# Altium integrated library Diodes - TVS.IntLib: 5379 symbols (part 1 of 122)
Pins are listed as number, name and electrical type; pins without a type are passive.

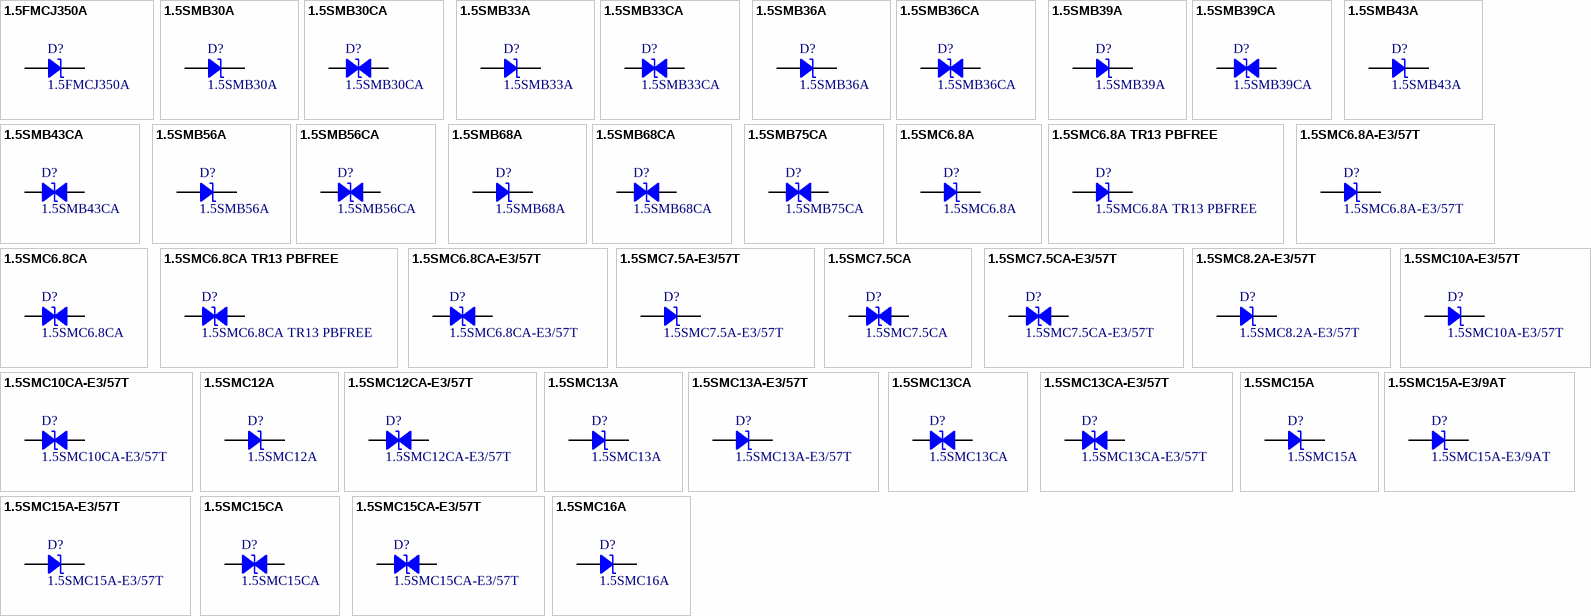
[diagram p0: symbols 1.5FMCJ350A to 1.5SMC16A]

## 1.5FMCJ350A
designator D?
TVS DIODE 1500W GPP 350V SMC; Manufacturer: Rectron USA; Current - Peak Pulse (10/1000µs): 3.2A; Power Line Protection: No; Power - Peak Pulse: 1500W (1.5kW); Type: Zener; Unidirectional Channels: 1; Voltage - Breakdown (Min): 333V; Voltage - Clamping (Max) @ Ipp: 482V; Voltage - Reverse Standoff (Typ): 300V; Part Number: 1.5FMCJ350A; Applications: General Purpose; ComponentLink1Description: Datasheet; ComponentLink1URL: https://www.rectron.com/public/product_datasheets/1.5fmcj.pdf; ComponentLink2Description: DigiKey Link; ComponentLink2URL: http://digikey.com/product-detail/en/rectron-usa/1-5FMCJ350A/2516-1-5FMCJ350ATR-ND/12337481; LastUpdated: 8/30/2020 9:01:03 PM; Lifecycle Status: Active; Minimum Order: 3000; Mounting Type: Surface Mount; Package / Case: DO-214AB, SMC; Packaging: TapeAndReel; PartId: 11449; Price: 0.27; Series: 1.5FMCJ; Supplier 1: DigiKey; Supplier Part Number 1: 2516-1.5FMCJ350ATR-ND; Supplier Device Package: DO-214AB (SMC)
footprint DO214AB SMC
pins: 1, 2

## 1.5SMB30A
designator D?
TVS DIODE 1500W 30V UNI DO214AA; Manufacturer: Littelfuse Inc.; Current - Peak Pulse (10/1000µs): 201.9A (8/20µs); Power Line Protection: No; Power - Peak Pulse: 1500W (1.5kW); Type: DO-214AA, SMB; Unidirectional Channels: 1; Voltage - Breakdown (Min): 28.5V; Voltage - Clamping (Max) @ Ipp: 53.5V; Voltage - Reverse Standoff (Typ): 25.6V; Part Number: 1.5SMB30A; Applications: Telecom; ComponentLink1Description: Datasheet; ComponentLink1URL: https://www.littelfuse.com/~/media/electronics/datasheets/tvs_diodes/littelfuse_tvs_diode_1_5smb-_datasheet.pdf.pdf; ComponentLink2Description: DigiKey Link; ComponentLink2URL: http://digikey.com/product-detail/en/littelfuse-inc/1.5SMB30A/18-1.5SMB30ACT-ND/10478052; LastUpdated: 9/2/2020 1:19:42 AM; Lifecycle Status: Active; Minimum Order: 1; Mounting Type: Surface Mount; Operating Temperature: -65°C ~ 150°C (TJ); Package / Case: DO-214AA, SMB; Packaging: TapeAndReel; PartId: 10508; Part Status: Active; Price: 0.25; Series: 1.5SMB; Supplier 1: DigiKey; Supplier Part Number 1: 18-1.5SMB30ACT-ND; Supplier Device Package: DO-214AA (SMBJ)
footprint DO214AA SMB
pins: 1, 2

## 1.5SMB30CA
designator D?
TVS DIODE 1500W 30V BI DO-214AA; Manufacturer: Littelfuse Inc.; Bidirectional Channels: 1; Current - Peak Pulse (10/1000µs): 201.9A (8/20µs); Power Line Protection: No; Power - Peak Pulse: 1500W (1.5kW); Type: DO-214AA, SMB; Voltage - Breakdown (Min): 28.5V; Voltage - Clamping (Max) @ Ipp: 53.5V; Voltage - Reverse Standoff (Typ): 25.6V; Part Number: 1.5SMB30CA; Applications: Telecom; ComponentLink1Description: Datasheet; ComponentLink1URL: https://www.littelfuse.com/~/media/electronics/datasheets/tvs_diodes/littelfuse_tvs_diode_1_5smb-_datasheet.pdf.pdf; ComponentLink2Description: DigiKey Link; ComponentLink2URL: http://digikey.com/product-detail/en/littelfuse-inc/1.5SMB30CA/18-1.5SMB30CACT-ND/10477976; LastUpdated: 9/2/2020 1:28:15 AM; Lifecycle Status: Active; Minimum Order: 1; Mounting Type: Surface Mount; Operating Temperature: -65°C ~ 150°C (TJ); Package / Case: DO-214AA, SMB; Packaging: TapeAndReel; PartId: 8813; Part Status: Active; Price: 0.27; Series: 1.5SMB; Supplier 1: DigiKey; Supplier Part Number 1: 18-1.5SMB30CACT-ND; Supplier Device Package: DO-214AA (SMBJ)
footprint DO214AA SMB
pins: 1, 2

## 1.5SMB33A
designator D?
TVS DIODE 1500W 33V UNI DO214AA; Manufacturer: Littelfuse Inc.; Current - Peak Pulse (10/1000µs): 183.2A (8/20µs); Power Line Protection: No; Power - Peak Pulse: 1500W (1.5kW); Type: DO-214AA, SMB; Unidirectional Channels: 1; Voltage - Breakdown (Min): 31.4V; Voltage - Clamping (Max) @ Ipp: 59V; Voltage - Reverse Standoff (Typ): 28.2V; Part Number: 1.5SMB33A; Applications: Telecom; ComponentLink1Description: Datasheet; ComponentLink1URL: https://www.littelfuse.com/~/media/electronics/datasheets/tvs_diodes/littelfuse_tvs_diode_1_5smb-_datasheet.pdf.pdf; ComponentLink2Description: DigiKey Link; ComponentLink2URL: http://digikey.com/product-detail/en/littelfuse-inc/1.5SMB33A/18-1.5SMB33ACT-ND/10478013; LastUpdated: 9/2/2020 1:19:42 AM; Lifecycle Status: Active; Minimum Order: 1; Mounting Type: Surface Mount; Operating Temperature: -65°C ~ 150°C (TJ); Package / Case: DO-214AA, SMB; Packaging: TapeAndReel; PartId: 10511; Part Status: Active; Price: 0.25; Series: 1.5SMB; Supplier 1: DigiKey; Supplier Part Number 1: 18-1.5SMB33ACT-ND; Supplier Device Package: DO-214AA (SMBJ)
footprint DO214AA SMB
pins: 1, 2

## 1.5SMB33CA
designator D?
TVS DIODE 1500W 33V BI DO-214AA; Manufacturer: Littelfuse Inc.; Bidirectional Channels: 1; Current - Peak Pulse (10/1000µs): 183.2A (8/20µs); Power Line Protection: No; Power - Peak Pulse: 1500W (1.5kW); Type: DO-214AA, SMB; Voltage - Breakdown (Min): 31.4V; Voltage - Clamping (Max) @ Ipp: 59V; Voltage - Reverse Standoff (Typ): 28.2V; Part Number: 1.5SMB33CA; Applications: Telecom; ComponentLink1Description: Datasheet; ComponentLink1URL: https://www.littelfuse.com/~/media/electronics/datasheets/tvs_diodes/littelfuse_tvs_diode_1_5smb-_datasheet.pdf.pdf; ComponentLink2Description: DigiKey Link; ComponentLink2URL: http://digikey.com/product-detail/en/littelfuse-inc/1.5SMB33CA/18-1.5SMB33CACT-ND/10477989; LastUpdated: 9/2/2020 1:28:15 AM; Lifecycle Status: Active; Minimum Order: 1; Mounting Type: Surface Mount; Operating Temperature: -65°C ~ 150°C (TJ); Package / Case: DO-214AA, SMB; Packaging: TapeAndReel; PartId: 8818; Part Status: Active; Price: 0.27; Series: 1.5SMB; Supplier 1: DigiKey; Supplier Part Number 1: 18-1.5SMB33CACT-ND; Supplier Device Package: DO-214AA (SMBJ)
footprint DO214AA SMB
pins: 1, 2

## 1.5SMB36A
designator D?
TVS DIODE 1500W 36V UNI DO214AA; Manufacturer: Littelfuse Inc.; Current - Peak Pulse (10/1000µs): 167.8A (8/20µs); Power Line Protection: No; Power - Peak Pulse: 1500W (1.5kW); Type: DO-214AA, SMB; Unidirectional Channels: 1; Voltage - Breakdown (Min): 34.2V; Voltage - Clamping (Max) @ Ipp: 64.5V; Voltage - Reverse Standoff (Typ): 30.8V; Part Number: 1.5SMB36A; Applications: Telecom; ComponentLink1Description: Datasheet; ComponentLink1URL: https://www.littelfuse.com/~/media/electronics/datasheets/tvs_diodes/littelfuse_tvs_diode_1_5smb-_datasheet.pdf.pdf; ComponentLink2Description: DigiKey Link; ComponentLink2URL: http://digikey.com/product-detail/en/littelfuse-inc/1.5SMB36A/18-1.5SMB36ACT-ND/10477997; LastUpdated: 9/2/2020 1:19:42 AM; Lifecycle Status: Active; Minimum Order: 1; Mounting Type: Surface Mount; Operating Temperature: -65°C ~ 150°C (TJ); Package / Case: DO-214AA, SMB; Packaging: TapeAndReel; PartId: 10512; Part Status: Active; Price: 0.25; Series: 1.5SMB; Supplier 1: DigiKey; Supplier Part Number 1: 18-1.5SMB36ACT-ND; Supplier Device Package: DO-214AA (SMBJ)
footprint DO214AA SMB
pins: 1, 2

## 1.5SMB36CA
designator D?
TVS DIODE 1500W 36V BI DO-214AA; Manufacturer: Littelfuse Inc.; Bidirectional Channels: 1; Current - Peak Pulse (10/1000µs): 167.8A (8/20µs); Power Line Protection: No; Power - Peak Pulse: 1500W (1.5kW); Type: DO-214AA, SMB; Voltage - Breakdown (Min): 34.2V; Voltage - Clamping (Max) @ Ipp: 64.5V; Voltage - Reverse Standoff (Typ): 30.8V; Part Number: 1.5SMB36CA; Applications: Telecom; ComponentLink1Description: Datasheet; ComponentLink1URL: https://www.littelfuse.com/~/media/electronics/datasheets/tvs_diodes/littelfuse_tvs_diode_1_5smb-_datasheet.pdf.pdf; ComponentLink2Description: DigiKey Link; ComponentLink2URL: http://digikey.com/product-detail/en/littelfuse-inc/1.5SMB36CA/18-1.5SMB36CACT-ND/10477971; LastUpdated: 9/2/2020 1:28:15 AM; Lifecycle Status: Active; Minimum Order: 1; Mounting Type: Surface Mount; Operating Temperature: -65°C ~ 150°C (TJ); Package / Case: DO-214AA, SMB; Packaging: TapeAndReel; PartId: 8814; Part Status: Active; Price: 0.27; Series: 1.5SMB; Supplier 1: DigiKey; Supplier Part Number 1: 18-1.5SMB36CACT-ND; Supplier Device Package: DO-214AA (SMBJ)
footprint DO214AA SMB
pins: 1, 2

## 1.5SMB39A
designator D?
TVS DIODE 1500W 39V UNI DO214AA; Manufacturer: Littelfuse Inc.; Current - Peak Pulse (10/1000µs): 155.1A (8/20µs); Power Line Protection: No; Power - Peak Pulse: 1500W (1.5kW); Type: DO-214AA, SMB; Unidirectional Channels: 1; Voltage - Breakdown (Min): 37.1V; Voltage - Clamping (Max) @ Ipp: 69.6V; Voltage - Reverse Standoff (Typ): 33.3V; Part Number: 1.5SMB39A; Applications: Telecom; ComponentLink1Description: Datasheet; ComponentLink1URL: https://www.littelfuse.com/~/media/electronics/datasheets/tvs_diodes/littelfuse_tvs_diode_1_5smb-_datasheet.pdf.pdf; ComponentLink2Description: DigiKey Link; ComponentLink2URL: http://digikey.com/product-detail/en/littelfuse-inc/1.5SMB39A/18-1.5SMB39ACT-ND/10478014; LastUpdated: 9/2/2020 1:19:42 AM; Lifecycle Status: Active; Minimum Order: 1; Mounting Type: Surface Mount; Operating Temperature: -65°C ~ 150°C (TJ); Package / Case: DO-214AA, SMB; Packaging: TapeAndReel; PartId: 10510; Part Status: Active; Price: 0.25; Series: 1.5SMB; Supplier 1: DigiKey; Supplier Part Number 1: 18-1.5SMB39ACT-ND; Supplier Device Package: DO-214AA (SMBJ)
footprint DO214AA SMB
pins: 1, 2

## 1.5SMB39CA
designator D?
TVS DIODE 1500W 39V BI DO-214AA; Manufacturer: Littelfuse Inc.; Bidirectional Channels: 1; Current - Peak Pulse (10/1000µs): 155.1A (8/20µs); Power Line Protection: No; Power - Peak Pulse: 1500W (1.5kW); Type: DO-214AA, SMB; Voltage - Breakdown (Min): 37.1V; Voltage - Clamping (Max) @ Ipp: 69.6V; Voltage - Reverse Standoff (Typ): 33.3V; Part Number: 1.5SMB39CA; Applications: Telecom; ComponentLink1Description: Datasheet; ComponentLink1URL: https://www.littelfuse.com/~/media/electronics/datasheets/tvs_diodes/littelfuse_tvs_diode_1_5smb-_datasheet.pdf.pdf; ComponentLink2Description: DigiKey Link; ComponentLink2URL: http://digikey.com/product-detail/en/littelfuse-inc/1.5SMB39CA/18-1.5SMB39CACT-ND/10477963; LastUpdated: 9/2/2020 1:28:15 AM; Lifecycle Status: Active; Minimum Order: 1; Mounting Type: Surface Mount; Operating Temperature: -65°C ~ 150°C (TJ); Package / Case: DO-214AA, SMB; Packaging: TapeAndReel; PartId: 8815; Part Status: Active; Price: 0.27; Series: 1.5SMB; Supplier 1: DigiKey; Supplier Part Number 1: 18-1.5SMB39CACT-ND; Supplier Device Package: DO-214AA (SMBJ)
footprint DO214AA SMB
pins: 1, 2

## 1.5SMB43A
designator D?
TVS DIODE 1500W 43V UNI DO214AA; Manufacturer: Littelfuse Inc.; Current - Peak Pulse (10/1000µs): 140.8A (8/20µs); Power Line Protection: No; Power - Peak Pulse: 1500W (1.5kW); Type: DO-214AA, SMB; Unidirectional Channels: 1; Voltage - Breakdown (Min): 40.9V; Voltage - Clamping (Max) @ Ipp: 76.6V; Voltage - Reverse Standoff (Typ): 36.8V; Part Number: 1.5SMB43A; Applications: Telecom; ComponentLink1Description: Datasheet; ComponentLink1URL: https://www.littelfuse.com/~/media/electronics/datasheets/tvs_diodes/littelfuse_tvs_diode_1_5smb-_datasheet.pdf.pdf; ComponentLink2Description: DigiKey Link; ComponentLink2URL: http://digikey.com/product-detail/en/littelfuse-inc/1.5SMB43A/18-1.5SMB43ACT-ND/10477973; LastUpdated: 9/2/2020 1:19:42 AM; Lifecycle Status: Active; Minimum Order: 1; Mounting Type: Surface Mount; Operating Temperature: -65°C ~ 150°C (TJ); Package / Case: DO-214AA, SMB; Packaging: TapeAndReel; PartId: 10514; Part Status: Active; Price: 0.25; Series: 1.5SMB; Supplier 1: DigiKey; Supplier Part Number 1: 18-1.5SMB43ACT-ND; Supplier Device Package: DO-214AA (SMBJ)
footprint DO214AA SMB
pins: 1, 2

## 1.5SMB43CA
designator D?
TVS DIODE 1500W 43V BI DO-214AA; Manufacturer: Littelfuse Inc.; Bidirectional Channels: 1; Current - Peak Pulse (10/1000µs): 140.8A (8/20µs); Power Line Protection: No; Power - Peak Pulse: 1500W (1.5kW); Type: DO-214AA, SMB; Voltage - Breakdown (Min): 40.9V; Voltage - Clamping (Max) @ Ipp: 76.6V; Voltage - Reverse Standoff (Typ): 36.8V; Part Number: 1.5SMB43CA; Applications: Telecom; ComponentLink1Description: Datasheet; ComponentLink1URL: https://www.littelfuse.com/~/media/electronics/datasheets/tvs_diodes/littelfuse_tvs_diode_1_5smb-_datasheet.pdf.pdf; ComponentLink2Description: DigiKey Link; ComponentLink2URL: http://digikey.com/product-detail/en/littelfuse-inc/1.5SMB43CA/18-1.5SMB43CACT-ND/10478018; LastUpdated: 9/2/2020 1:28:15 AM; Lifecycle Status: Active; Minimum Order: 1; Mounting Type: Surface Mount; Operating Temperature: -65°C ~ 150°C (TJ); Package / Case: DO-214AA, SMB; Packaging: TapeAndReel; PartId: 8809; Part Status: Active; Price: 0.27; Series: 1.5SMB; Supplier 1: DigiKey; Supplier Part Number 1: 18-1.5SMB43CACT-ND; Supplier Device Package: DO-214AA (SMBJ)
footprint DO214AA SMB
pins: 1, 2

## 1.5SMB56A
designator D?
TVS DIODE 1500W 56V UNI DO214AA; Manufacturer: Littelfuse Inc.; Current - Peak Pulse (10/1000µs): 108.4A (8/20µs); Power Line Protection: No; Power - Peak Pulse: 1500W (1.5kW); Type: DO-214AA, SMB; Unidirectional Channels: 1; Voltage - Breakdown (Min): 53.2V; Voltage - Clamping (Max) @ Ipp: 99.5V; Voltage - Reverse Standoff (Typ): 47.8V; Part Number: 1.5SMB56A; Applications: Telecom; ComponentLink1Description: Datasheet; ComponentLink1URL: https://www.littelfuse.com/~/media/electronics/datasheets/tvs_diodes/littelfuse_tvs_diode_1_5smb-_datasheet.pdf.pdf; ComponentLink2Description: DigiKey Link; ComponentLink2URL: http://digikey.com/product-detail/en/littelfuse-inc/1.5SMB56A/18-1.5SMB56ACT-ND/10478042; LastUpdated: 9/2/2020 1:19:42 AM; Lifecycle Status: Active; Minimum Order: 1; Mounting Type: Surface Mount; Operating Temperature: -65°C ~ 150°C (TJ); Package / Case: DO-214AA, SMB; Packaging: TapeAndReel; PartId: 10509; Part Status: Active; Price: 0.25; Series: 1.5SMB; Supplier 1: DigiKey; Supplier Part Number 1: 18-1.5SMB56ACT-ND; Supplier Device Package: DO-214AA (SMBJ)
footprint DO214AA SMB
pins: 1, 2

## 1.5SMB56CA
designator D?
TVS DIODE 1500W 56V BI DO-214AA; Manufacturer: Littelfuse Inc.; Bidirectional Channels: 1; Current - Peak Pulse (10/1000µs): 108.4A (8/20µs); Power Line Protection: No; Power - Peak Pulse: 1500W (1.5kW); Type: DO-214AA, SMB; Voltage - Breakdown (Min): 53.2V; Voltage - Clamping (Max) @ Ipp: 99.5V; Voltage - Reverse Standoff (Typ): 47.8V; Part Number: 1.5SMB56CA; Applications: Telecom; ComponentLink1Description: Datasheet; ComponentLink1URL: https://www.littelfuse.com/~/media/electronics/datasheets/tvs_diodes/littelfuse_tvs_diode_1_5smb-_datasheet.pdf.pdf; ComponentLink2Description: DigiKey Link; ComponentLink2URL: http://digikey.com/product-detail/en/littelfuse-inc/1.5SMB56CA/18-1.5SMB56CACT-ND/10477981; LastUpdated: 9/2/2020 1:28:15 AM; Lifecycle Status: Active; Minimum Order: 1; Mounting Type: Surface Mount; Operating Temperature: -65°C ~ 150°C (TJ); Package / Case: DO-214AA, SMB; Packaging: TapeAndReel; PartId: 8812; Part Status: Active; Price: 0.27; Series: 1.5SMB; Supplier 1: DigiKey; Supplier Part Number 1: 18-1.5SMB56CACT-ND; Supplier Device Package: DO-214AA (SMBJ)
footprint DO214AA SMB
pins: 1, 2

## 1.5SMB68A
designator D?
TVS DIODE 1500W 68V UNI DO214AA; Manufacturer: Littelfuse Inc.; Current - Peak Pulse (10/1000µs): 90.8A (8/20µs); Power Line Protection: No; Power - Peak Pulse: 1500W (1.5kW); Type: DO-214AA, SMB; Unidirectional Channels: 1; Voltage - Breakdown (Min): 64.6V; Voltage - Clamping (Max) @ Ipp: 118.9V; Voltage - Reverse Standoff (Typ): 58.1V; Part Number: 1.5SMB68A; Applications: Telecom; ComponentLink1Description: Datasheet; ComponentLink1URL: https://www.littelfuse.com/~/media/electronics/datasheets/tvs_diodes/littelfuse_tvs_diode_1_5smb-_datasheet.pdf.pdf; ComponentLink2Description: DigiKey Link; ComponentLink2URL: http://digikey.com/product-detail/en/littelfuse-inc/1.5SMB68A/18-1.5SMB68ACT-ND/10477977; LastUpdated: 9/2/2020 1:19:42 AM; Lifecycle Status: Active; Minimum Order: 1; Mounting Type: Surface Mount; Operating Temperature: -65°C ~ 150°C (TJ); Package / Case: DO-214AA, SMB; Packaging: TapeAndReel; PartId: 10513; Part Status: Active; Price: 0.25; Series: 1.5SMB; Supplier 1: DigiKey; Supplier Part Number 1: 18-1.5SMB68ACT-ND; Supplier Device Package: DO-214AA (SMBJ)
footprint DO214AA SMB
pins: 1, 2

## 1.5SMB68CA
designator D?
TVS DIODE 1500W 68V BI DO-214AA; Manufacturer: Littelfuse Inc.; Bidirectional Channels: 1; Current - Peak Pulse (10/1000µs): 90.8A (8/20µs); Power Line Protection: No; Power - Peak Pulse: 1500W (1.5kW); Type: DO-214AA, SMB; Voltage - Breakdown (Min): 64.6V; Voltage - Clamping (Max) @ Ipp: 118.9V; Voltage - Reverse Standoff (Typ): 58.1V; Part Number: 1.5SMB68CA; Applications: Telecom; ComponentLink1Description: Datasheet; ComponentLink1URL: https://www.littelfuse.com/~/media/electronics/datasheets/tvs_diodes/littelfuse_tvs_diode_1_5smb-_datasheet.pdf.pdf; ComponentLink2Description: DigiKey Link; ComponentLink2URL: http://digikey.com/product-detail/en/littelfuse-inc/1.5SMB68CA/18-1.5SMB68CACT-ND/10478008; LastUpdated: 9/2/2020 1:28:15 AM; Lifecycle Status: Active; Minimum Order: 1; Mounting Type: Surface Mount; Operating Temperature: -65°C ~ 150°C (TJ); Package / Case: DO-214AA, SMB; Packaging: TapeAndReel; PartId: 8810; Part Status: Active; Price: 0.27; Series: 1.5SMB; Supplier 1: DigiKey; Supplier Part Number 1: 18-1.5SMB68CACT-ND; Supplier Device Package: DO-214AA (SMBJ)
footprint DO214AA SMB
pins: 1, 2

## 1.5SMB75CA
designator D?
TVS DIODE 1500W 75V BI DO-214AA; Manufacturer: Littelfuse Inc.; Bidirectional Channels: 1; Current - Peak Pulse (10/1000µs): 81.4A (8/20µs); Power Line Protection: No; Power - Peak Pulse: 1500W (1.5kW); Type: DO-214AA, SMB; Voltage - Breakdown (Min): 71.3V; Voltage - Clamping (Max) @ Ipp: 133.1V; Voltage - Reverse Standoff (Typ): 64.1V; Part Number: 1.5SMB75CA; Applications: Telecom; ComponentLink1Description: Datasheet; ComponentLink1URL: https://www.littelfuse.com/~/media/electronics/datasheets/tvs_diodes/littelfuse_tvs_diode_1_5smb-_datasheet.pdf.pdf; ComponentLink2Description: DigiKey Link; ComponentLink2URL: http://digikey.com/product-detail/en/littelfuse-inc/1.5SMB75CA/18-1.5SMB75CACT-ND/10477991; LastUpdated: 9/2/2020 1:28:15 AM; Lifecycle Status: Active; Minimum Order: 1; Mounting Type: Surface Mount; Operating Temperature: -65°C ~ 150°C (TJ); Package / Case: DO-214AA, SMB; Packaging: TapeAndReel; PartId: 8811; Part Status: Active; Price: 0.27; Series: 1.5SMB; Supplier 1: DigiKey; Supplier Part Number 1: 18-1.5SMB75CACT-ND; Supplier Device Package: DO-214AA (SMBJ)
footprint DO214AA SMB
pins: 1, 2

## 1.5SMC6.8A
designator D?
TVS DIODE 5.8V 10.5V DO214AB; Manufacturer: Littelfuse Inc.; Current - Peak Pulse (10/1000µs): 144.8A; Power Line Protection: No; Power - Peak Pulse: 1500W (1.5kW); Type: Zener; Unidirectional Channels: 1; Voltage - Breakdown (Min): 6.45V; Part Number: 1.5SMC6.8A; Applications: General Purpose; ComponentLink1Description: Datasheet; ComponentLink1URL: https://www.littelfuse.com/~/media/electronics/datasheets/tvs_diodes/littelfuse_tvs_diode_1_5smc_datasheet.pdf.pdf; ComponentLink2Description: DigiKey Link; ComponentLink2URL: http://digikey.com/product-detail/en/littelfuse-inc/1.5SMC6.8A/1.5SMC6.8ACT-ND/1835381; LastUpdated: 9/2/2020 1:20:01 AM; Lifecycle Status: Active; Minimum Order: 1; Mounting Type: Surface Mount; Operating Temperature: -55°C ~ 150°C (TJ); Package / Case: DO-214AB, SMC; Packaging: TapeAndReel; PartId: 6533; Part Status: Active; Price: 0.23; Series: 1.5SMC; Supplier 1: DigiKey; Supplier Part Number 1: 1.5SMC6.8ACT-ND; Supplier Device Package: DO-214AB (SMCJ); Voltage - Clamping (Max) @ Ipp: 10.5V; Voltage - Reverse Standoff (Typ): 5.8V
footprint DO214AB SMC
pins: 1, 2

## 1.5SMC6.8A TR13 PBFREE
designator D?
TVS DIODE 5.8V 10.5V SMC; Manufacturer: Central Semiconductor Corp; Current - Peak Pulse (10/1000µs): 143A; Power Line Protection: No; Power - Peak Pulse: 1500W (1.5kW); Type: Zener; Unidirectional Channels: 1; Voltage - Breakdown (Min): 6.45V; Part Number: 1.5SMC6.8A TR13 PBFREE; Applications: General Purpose; ComponentLink1Description: Datasheet; ComponentLink1URL: https://my.centralsemi.com/get_document.php?cmp=1&mergetype=pd&mergepath=pd&pdf_id=1.5SMC6.8A_200A.PDF; ComponentLink2Description: DigiKey Link; ComponentLink2URL: http://digikey.com/product-detail/en/central-semiconductor-corp/1.5SMC6.8A-TR13-PBFREE/1514-1.5SMC6.8ATR13PBFREECT-ND/5210799; LastUpdated: 9/2/2020 1:20:06 AM; Lifecycle Status: Active; Minimum Order: 1; Mounting Type: Surface Mount; Operating Temperature: -65°C ~ 150°C (TJ); Package / Case: DO-214AB, SMC; Packaging: TapeAndReel; PartId: 6987; Part Status: Active; Price: 0.48; Series: -; Supplier 1: DigiKey; Supplier Part Number 1: 1514-1.5SMC6.8ATR13PBFREECT-ND; Supplier Device Package: SMC; Voltage - Clamping (Max) @ Ipp: 10.5V; Voltage - Reverse Standoff (Typ): 5.8V
footprint DO214AB SMC
pins: 1, 2

## 1.5SMC6.8A-E3/57T
designator D?
TVS DIODE 5.8V 10.5V DO214AB; Manufacturer: Vishay Semiconductor Diodes Division; Current - Peak Pulse (10/1000µs): 143A; Power Line Protection: No; Power - Peak Pulse: 1500W (1.5kW); Type: Zener; Unidirectional Channels: 1; Voltage - Breakdown (Min): 6.45V; Part Number: 1.5SMC6.8A-E3/57T; Applications: General Purpose; ComponentLink1Description: Datasheet; ComponentLink1URL: http://www.vishay.com/docs/88303/15smc.pdf; ComponentLink2Description: DigiKey Link; ComponentLink2URL: http://digikey.com/product-detail/en/vishay-semiconductor-diodes-division/1.5SMC6.8A-E3-57T/1.5SMC6.8A-E3-57TGICT-ND/3306469; LastUpdated: 9/2/2020 1:19:59 AM; Lifecycle Status: Active; Minimum Order: 1; Mounting Type: Surface Mount; Operating Temperature: -65°C ~ 150°C (TJ); Package / Case: DO-214AB, SMC; Packaging: TapeAndReel; PartId: 6267; Part Status: Active; Price: 0.28; Series: 1.5SMC, TransZorb®; Supplier 1: DigiKey; Supplier Part Number 1: 1.5SMC6.8A-E3/57TGICT-ND; Supplier Device Package: SMC (DO-214AB); Voltage - Clamping (Max) @ Ipp: 10.5V; Voltage - Reverse Standoff (Typ): 5.8V
footprint DO214AB SMC
pins: 1, 2

## 1.5SMC6.8CA
designator D?
TVS DIODE 5.8V 10.5V DO214AB; Manufacturer: Littelfuse Inc.; Bidirectional Channels: 1; Current - Peak Pulse (10/1000µs): 144.8A; Power Line Protection: No; Power - Peak Pulse: 1500W (1.5kW); Type: Zener; Voltage - Breakdown (Min): 6.45V; Part Number: 1.5SMC6.8CA; Applications: General Purpose; ComponentLink1Description: Datasheet; ComponentLink1URL: https://www.littelfuse.com/~/media/electronics/datasheets/tvs_diodes/littelfuse_tvs_diode_1_5smc_datasheet.pdf.pdf; ComponentLink2Description: DigiKey Link; ComponentLink2URL: http://digikey.com/product-detail/en/littelfuse-inc/1.5SMC6.8CA/1.5SMC6.8CACT-ND/1835382; LastUpdated: 9/2/2020 1:28:02 AM; Lifecycle Status: Active; Minimum Order: 1; Mounting Type: Surface Mount; Operating Temperature: -55°C ~ 150°C (TJ); Package / Case: DO-214AB, SMC; Packaging: TapeAndReel; PartId: 8031; Part Status: Active; Price: 0.27; Series: 1.5SMC; Supplier 1: DigiKey; Supplier Part Number 1: 1.5SMC6.8CACT-ND; Supplier Device Package: DO-214AB (SMCJ); Voltage - Clamping (Max) @ Ipp: 10.5V; Voltage - Reverse Standoff (Typ): 5.8V
footprint DO214AB SMC
pins: 1, 2

## 1.5SMC6.8CA TR13 PBFREE
designator D?
TVS DIODE 5.8V 10.5V SMC; Manufacturer: Central Semiconductor Corp; Bidirectional Channels: 1; Current - Peak Pulse (10/1000µs): 143A; Power Line Protection: No; Power - Peak Pulse: 1500W (1.5kW); Type: Zener; Voltage - Breakdown (Min): 6.45V; Part Number: 1.5SMC6.8CA TR13 PBFREE; Applications: General Purpose; ComponentLink1Description: Datasheet; ComponentLink1URL: https://my.centralsemi.com/get_document.php?cmp=1&mergetype=pd&mergepath=pd&pdf_id=1.5SMC6.8CA_200CA.PDF; ComponentLink2Description: DigiKey Link; ComponentLink2URL: http://digikey.com/product-detail/en/central-semiconductor-corp/1.5SMC6.8CA-TR13-PBFREE/1514-1.5SMC6.8CATR13PBFREECT-ND/5210800; LastUpdated: 9/2/2020 1:28:07 AM; Lifecycle Status: Active; Minimum Order: 1; Mounting Type: Surface Mount; Operating Temperature: -65°C ~ 150°C (TJ); Package / Case: DO-214AB, SMC; Packaging: CutTape; PartId: 8540; Part Status: Active; Price: 1.31; Series: -; Supplier 1: DigiKey; Supplier Part Number 1: 1514-1.5SMC6.8CATR13PBFREECT-ND; Supplier Device Package: SMC; Voltage - Clamping (Max) @ Ipp: 10.5V; Voltage - Reverse Standoff (Typ): 5.8V
footprint DO214AB SMC
pins: 1, 2

## 1.5SMC6.8CA-E3/57T
designator D?
TVS DIODE 5.8V 10.5V DO214AB; Manufacturer: Vishay Semiconductor Diodes Division; Bidirectional Channels: 1; Current - Peak Pulse (10/1000µs): 143A; Power Line Protection: No; Power - Peak Pulse: 1500W (1.5kW); Type: Zener; Voltage - Breakdown (Min): 6.45V; Part Number: 1.5SMC6.8CA-E3/57T; Applications: General Purpose; ComponentLink1Description: Datasheet; ComponentLink1URL: http://www.vishay.com/docs/88303/15smc.pdf; ComponentLink2Description: DigiKey Link; ComponentLink2URL: http://digikey.com/product-detail/en/vishay-semiconductor-diodes-division/1.5SMC6.8CA-E3-57T/1.5SMC6.8CA-E3-57TGICT-ND/3306470; LastUpdated: 9/2/2020 1:28:05 AM; Lifecycle Status: Active; Minimum Order: 1; Mounting Type: Surface Mount; Operating Temperature: -65°C ~ 150°C (TJ); Package / Case: DO-214AB, SMC; Packaging: TapeAndReel; PartId: 8305; Part Status: Active; Price: 0.33; Series: 1.5SMC, TransZorb®; Supplier 1: DigiKey; Supplier Part Number 1: 1.5SMC6.8CA-E3/57TGICT-ND; Supplier Device Package: SMC (DO-214AB); Voltage - Clamping (Max) @ Ipp: 10.5V; Voltage - Reverse Standoff (Typ): 5.8V
footprint DO214AB SMC
pins: 1, 2

## 1.5SMC7.5A-E3/57T
designator D?
TVS DIODE 6.4V 11.3V DO214AB; Manufacturer: Vishay Semiconductor Diodes Division; Current - Peak Pulse (10/1000µs): 133A; Power Line Protection: No; Power - Peak Pulse: 1500W (1.5kW); Type: Zener; Unidirectional Channels: 1; Voltage - Breakdown (Min): 7.13V; Part Number: 1.5SMC7.5A-E3/57T; Applications: General Purpose; ComponentLink1Description: Datasheet; ComponentLink1URL: http://www.vishay.com/docs/88303/15smc.pdf; ComponentLink2Description: DigiKey Link; ComponentLink2URL: http://digikey.com/product-detail/en/vishay-semiconductor-diodes-division/1.5SMC7.5A-E3-57T/1.5SMC7.5A-E3-57TGICT-ND/5639004; LastUpdated: 9/2/2020 1:20:03 AM; Lifecycle Status: Active; Minimum Order: 1; Mounting Type: Surface Mount; Operating Temperature: -65°C ~ 150°C (TJ); Package / Case: DO-214AB, SMC; Packaging: TapeAndReel; PartId: 6687; Part Status: Active; Price: 0.28; Series: 1.5SMC, TransZorb®; Supplier 1: DigiKey; Supplier Part Number 1: 1.5SMC7.5A-E3/57TGICT-ND; Supplier Device Package: SMC (DO-214AB); Voltage - Clamping (Max) @ Ipp: 11.3V; Voltage - Reverse Standoff (Typ): 6.4V
footprint DO214AB SMC
pins: 1, 2

## 1.5SMC7.5CA
designator D?
TVS DIODE 6.4V 11.3V DO214AB; Manufacturer: Bourns Inc.; Bidirectional Channels: 1; Current - Peak Pulse (10/1000µs): 134.5A; Power Line Protection: No; Power - Peak Pulse: 1500W (1.5kW); Type: Zener; Voltage - Breakdown (Min): 7.13V; Part Number: 1.5SMC7.5CA; Applications: General Purpose; ComponentLink1Description: Datasheet; ComponentLink1URL: https://www.bourns.com/data/global/pdfs/1.5SMC.pdf; ComponentLink2Description: DigiKey Link; ComponentLink2URL: http://digikey.com/product-detail/en/bourns-inc/1.5SMC7.5CA/1.5SMC7.5CABBCT-ND/9687913; LastUpdated: 9/2/2020 1:28:04 AM; Lifecycle Status: Active; Minimum Order: 1; Mounting Type: Surface Mount; Operating Temperature: -55°C ~ 150°C (TJ); Package / Case: DO-214AB, SMC; Packaging: TapeAndReel; PartId: 8237; Part Status: Active; Price: 0.22; Series: -; Supplier 1: DigiKey; Supplier Part Number 1: 1.5SMC7.5CABBCT-ND; Supplier Device Package: DO-214AB (SMC); Voltage - Clamping (Max) @ Ipp: 11.3V; Voltage - Reverse Standoff (Typ): 6.4V
footprint DO214AB SMC
pins: 1, 2

## 1.5SMC7.5CA-E3/57T
designator D?
TVS DIODE 6.4V 11.3V DO214AB; Manufacturer: Vishay Semiconductor Diodes Division; Bidirectional Channels: 1; Current - Peak Pulse (10/1000µs): 133A; Power Line Protection: No; Power - Peak Pulse: 1500W (1.5kW); Type: Zener; Voltage - Breakdown (Min): 7.13V; Part Number: 1.5SMC7.5CA-E3/57T; Applications: General Purpose; ComponentLink1Description: Datasheet; ComponentLink1URL: http://www.vishay.com/docs/88303/15smc.pdf; ComponentLink2Description: DigiKey Link; ComponentLink2URL: http://digikey.com/product-detail/en/vishay-semiconductor-diodes-division/1.5SMC7.5CA-E3-57T/1.5SMC7.5CA-E3-57TGICT-ND/3847601; LastUpdated: 9/2/2020 1:28:05 AM; Lifecycle Status: Active; Minimum Order: 1; Mounting Type: Surface Mount; Operating Temperature: -65°C ~ 150°C (TJ); Package / Case: DO-214AB, SMC; Packaging: TapeAndReel; PartId: 8307; Part Status: Active; Price: 0.33; Series: 1.5SMC, TransZorb®; Supplier 1: DigiKey; Supplier Part Number 1: 1.5SMC7.5CA-E3/57TGICT-ND; Supplier Device Package: SMC (DO-214AB); Voltage - Clamping (Max) @ Ipp: 11.3V; Voltage - Reverse Standoff (Typ): 6.4V
footprint DO214AB SMC
pins: 1, 2

## 1.5SMC8.2A-E3/57T
designator D?
TVS DIODE 7.02V 12.1V DO214AB; Manufacturer: Vishay Semiconductor Diodes Division; Current - Peak Pulse (10/1000µs): 124A; Power Line Protection: No; Power - Peak Pulse: 1500W (1.5kW); Type: Zener; Unidirectional Channels: 1; Voltage - Breakdown (Min): 7.79V; Part Number: 1.5SMC8.2A-E3/57T; Applications: General Purpose; ComponentLink1Description: Datasheet; ComponentLink1URL: http://www.vishay.com/docs/88303/15smc.pdf; ComponentLink2Description: DigiKey Link; ComponentLink2URL: http://digikey.com/product-detail/en/vishay-semiconductor-diodes-division/1.5SMC8.2A-E3-57T/1.5SMC8.2A-E3-57TGICT-ND/5639006; LastUpdated: 9/2/2020 1:19:59 AM; Lifecycle Status: Active; Minimum Order: 1; Mounting Type: Surface Mount; Operating Temperature: -65°C ~ 150°C (TJ); Package / Case: DO-214AB, SMC; Packaging: TapeAndReel; PartId: 6266; Part Status: Active; Price: 0.28; Series: 1.5SMC, TransZorb®; Supplier 1: DigiKey; Supplier Part Number 1: 1.5SMC8.2A-E3/57TGICT-ND; Supplier Device Package: SMC (DO-214AB); Voltage - Clamping (Max) @ Ipp: 12.1V; Voltage - Reverse Standoff (Typ): 7.02V
footprint DO214AB SMC
pins: 1, 2

## 1.5SMC10A-E3/57T
designator D?
TVS DIODE 8.55V 14.5V DO214AB; Manufacturer: Vishay Semiconductor Diodes Division; Current - Peak Pulse (10/1000µs): 103A; Power Line Protection: No; Power - Peak Pulse: 1500W (1.5kW); Type: Zener; Unidirectional Channels: 1; Voltage - Breakdown (Min): 9.5V; Part Number: 1.5SMC10A-E3/57T; Applications: General Purpose; ComponentLink1Description: Datasheet; ComponentLink1URL: http://www.vishay.com/docs/88303/15smc.pdf; ComponentLink2Description: DigiKey Link; ComponentLink2URL: http://digikey.com/product-detail/en/vishay-semiconductor-diodes-division/1.5SMC10A-E3-57T/1.5SMC10A-E3-57TGICT-ND/5638965; LastUpdated: 9/2/2020 1:19:59 AM; Lifecycle Status: Active; Minimum Order: 1; Mounting Type: Surface Mount; Operating Temperature: -65°C ~ 150°C (TJ); Package / Case: DO-214AB, SMC; Packaging: TapeAndReel; PartId: 6273; Part Status: Active; Price: 0.28; Series: 1.5SMC, TransZorb®; Supplier 1: DigiKey; Supplier Part Number 1: 1.5SMC10A-E3/57TGICT-ND; Supplier Device Package: SMC (DO-214AB); Voltage - Clamping (Max) @ Ipp: 14.5V; Voltage - Reverse Standoff (Typ): 8.55V
footprint DO214AB SMC
pins: 1, 2

## 1.5SMC10CA-E3/57T
designator D?
TVS DIODE 8.55V 14.5V DO214AB; Manufacturer: Vishay Semiconductor Diodes Division; Bidirectional Channels: 1; Current - Peak Pulse (10/1000µs): 103A; Power Line Protection: No; Power - Peak Pulse: 1500W (1.5kW); Type: Zener; Voltage - Breakdown (Min): 9.5V; Part Number: 1.5SMC10CA-E3/57T; Applications: General Purpose; ComponentLink1Description: Datasheet; ComponentLink1URL: http://www.vishay.com/docs/88303/15smc.pdf; ComponentLink2Description: DigiKey Link; ComponentLink2URL: http://digikey.com/product-detail/en/vishay-semiconductor-diodes-division/1.5SMC10CA-E3-57T/1.5SMC10CA-E3-57TGICT-ND/5638966; LastUpdated: 9/2/2020 1:28:02 AM; Lifecycle Status: Active; Minimum Order: 1; Mounting Type: Surface Mount; Operating Temperature: -65°C ~ 150°C (TJ); Package / Case: DO-214AB, SMC; Packaging: TapeAndReel; PartId: 8044; Part Status: Active; Price: 0.33; Series: 1.5SMC, TransZorb®; Supplier 1: DigiKey; Supplier Part Number 1: 1.5SMC10CA-E3/57TGICT-ND; Supplier Device Package: SMC (DO-214AB); Voltage - Clamping (Max) @ Ipp: 14.5V; Voltage - Reverse Standoff (Typ): 8.55V
footprint DO214AB SMC
pins: 1, 2

## 1.5SMC12A
designator D?
TVS DIODE 10.2V 16.7V DO214AB; Manufacturer: Littelfuse Inc.; Current - Peak Pulse (10/1000µs): 91A; Power Line Protection: No; Power - Peak Pulse: 1500W (1.5kW); Type: Zener; Unidirectional Channels: 1; Voltage - Breakdown (Min): 11.4V; Part Number: 1.5SMC12A; Applications: General Purpose; ComponentLink1Description: Datasheet; ComponentLink1URL: https://www.littelfuse.com/~/media/electronics/datasheets/tvs_diodes/littelfuse_tvs_diode_1_5smc_datasheet.pdf.pdf; ComponentLink2Description: DigiKey Link; ComponentLink2URL: http://digikey.com/product-detail/en/littelfuse-inc/1.5SMC12A/1.5SMC12ACT-ND/1835383; LastUpdated: 9/2/2020 1:20:01 AM; Lifecycle Status: Active; Minimum Order: 1; Mounting Type: Surface Mount; Operating Temperature: -55°C ~ 150°C (TJ); Package / Case: DO-214AB, SMC; Packaging: TapeAndReel; PartId: 6506; Part Status: Active; Price: 0.23; Series: 1.5SMC; Supplier 1: DigiKey; Supplier Part Number 1: 1.5SMC12ACT-ND; Supplier Device Package: DO-214AB (SMCJ); Voltage - Clamping (Max) @ Ipp: 16.7V; Voltage - Reverse Standoff (Typ): 10.2V
footprint DO214AB SMC
pins: 1, 2

## 1.5SMC12CA-E3/57T
designator D?
TVS DIODE 10.2V 16.7V DO214AB; Manufacturer: Vishay Semiconductor Diodes Division; Bidirectional Channels: 1; Current - Peak Pulse (10/1000µs): 89.8A; Power Line Protection: No; Power - Peak Pulse: 1500W (1.5kW); Type: Zener; Voltage - Breakdown (Min): 11.4V; Part Number: 1.5SMC12CA-E3/57T; Applications: General Purpose; ComponentLink1Description: Datasheet; ComponentLink1URL: http://www.vishay.com/docs/88303/15smc.pdf; ComponentLink2Description: DigiKey Link; ComponentLink2URL: http://digikey.com/product-detail/en/vishay-semiconductor-diodes-division/1.5SMC12CA-E3-57T/1.5SMC12CA-E3-57TGICT-ND/3306457; LastUpdated: 9/2/2020 1:28:06 AM; Lifecycle Status: Active; Minimum Order: 1; Mounting Type: Surface Mount; Operating Temperature: -65°C ~ 150°C (TJ); Package / Case: DO-214AB, SMC; Packaging: TapeAndReel; PartId: 8492; Part Status: Active; Price: 0.33; Series: 1.5SMC, TransZorb®; Supplier 1: DigiKey; Supplier Part Number 1: 1.5SMC12CA-E3/57TGICT-ND; Supplier Device Package: SMC (DO-214AB); Voltage - Clamping (Max) @ Ipp: 16.7V; Voltage - Reverse Standoff (Typ): 10.2V
footprint DO214AB SMC
pins: 1, 2

## 1.5SMC13A
designator D?
TVS DIODE 11.1V 18.2V DO214AB; Manufacturer: Littelfuse Inc.; Current - Peak Pulse (10/1000µs): 83.5A; Power Line Protection: No; Power - Peak Pulse: 1500W (1.5kW); Type: Zener; Unidirectional Channels: 1; Voltage - Breakdown (Min): 12.4V; Part Number: 1.5SMC13A; Applications: General Purpose; ComponentLink1Description: Datasheet; ComponentLink1URL: https://www.littelfuse.com/~/media/electronics/datasheets/tvs_diodes/littelfuse_tvs_diode_1_5smc_datasheet.pdf.pdf; ComponentLink2Description: DigiKey Link; ComponentLink2URL: http://digikey.com/product-detail/en/littelfuse-inc/1.5SMC13A/1.5SMC13ACT-ND/3306982; LastUpdated: 9/2/2020 1:20:01 AM; Lifecycle Status: Active; Minimum Order: 1; Mounting Type: Surface Mount; Operating Temperature: -55°C ~ 150°C (TJ); Package / Case: DO-214AB, SMC; Packaging: TapeAndReel; PartId: 6505; Part Status: Active; Price: 0.25; Series: 1.5SMC; Supplier 1: DigiKey; Supplier Part Number 1: 1.5SMC13ACT-ND; Supplier Device Package: DO-214AB (SMCJ); Voltage - Clamping (Max) @ Ipp: 18.2V; Voltage - Reverse Standoff (Typ): 11.1V
footprint DO214AB SMC
pins: 1, 2

## 1.5SMC13A-E3/57T
designator D?
TVS DIODE 11.1V 18.2V DO214AB; Manufacturer: Vishay Semiconductor Diodes Division; Current - Peak Pulse (10/1000µs): 82.4A; Power Line Protection: No; Power - Peak Pulse: 1500W (1.5kW); Type: Zener; Unidirectional Channels: 1; Voltage - Breakdown (Min): 12.4V; Part Number: 1.5SMC13A-E3/57T; Applications: General Purpose; ComponentLink1Description: Datasheet; ComponentLink1URL: http://www.vishay.com/docs/88303/15smc.pdf; ComponentLink2Description: DigiKey Link; ComponentLink2URL: http://digikey.com/product-detail/en/vishay-semiconductor-diodes-division/1.5SMC13A-E3-57T/1.5SMC13A-E3-57TGICT-ND/5638973; LastUpdated: 9/2/2020 1:20:00 AM; Lifecycle Status: Active; Minimum Order: 1; Mounting Type: Surface Mount; Operating Temperature: -65°C ~ 150°C (TJ); Package / Case: DO-214AB, SMC; Packaging: TapeAndReel; PartId: 6438; Part Status: Active; Price: 0.28; Series: 1.5SMC, TransZorb®; Supplier 1: DigiKey; Supplier Part Number 1: 1.5SMC13A-E3/57TGICT-ND; Supplier Device Package: SMC (DO-214AB); Voltage - Clamping (Max) @ Ipp: 18.2V; Voltage - Reverse Standoff (Typ): 11.1V
footprint DO214AB SMC
pins: 1, 2

## 1.5SMC13CA
designator D?
TVS DIODE 11.1V 18.2V DO214AB; Manufacturer: Littelfuse Inc.; Bidirectional Channels: 1; Current - Peak Pulse (10/1000µs): 83.5A; Power Line Protection: No; Power - Peak Pulse: 1500W (1.5kW); Type: Zener; Voltage - Breakdown (Min): 12.4V; Part Number: 1.5SMC13CA; Applications: General Purpose; ComponentLink1Description: Datasheet; ComponentLink1URL: https://www.littelfuse.com/~/media/electronics/datasheets/tvs_diodes/littelfuse_tvs_diode_1_5smc_datasheet.pdf.pdf; ComponentLink2Description: DigiKey Link; ComponentLink2URL: http://digikey.com/product-detail/en/littelfuse-inc/1.5SMC13CA/1.5SMC13CACT-ND/2770247; LastUpdated: 9/2/2020 1:28:02 AM; Lifecycle Status: Active; Minimum Order: 1; Mounting Type: Surface Mount; Operating Temperature: -55°C ~ 150°C (TJ); Package / Case: DO-214AB, SMC; Packaging: TapeAndReel; PartId: 8030; Part Status: Active; Price: 0.27; Series: 1.5SMC; Supplier 1: DigiKey; Supplier Part Number 1: 1.5SMC13CACT-ND; Supplier Device Package: DO-214AB (SMCJ); Voltage - Clamping (Max) @ Ipp: 18.2V; Voltage - Reverse Standoff (Typ): 11.1V
footprint DO214AB SMC
pins: 1, 2

## 1.5SMC13CA-E3/57T
designator D?
TVS DIODE 11.1V 18.2V DO214AB; Manufacturer: Vishay Semiconductor Diodes Division; Bidirectional Channels: 1; Current - Peak Pulse (10/1000µs): 82.4A; Power Line Protection: No; Power - Peak Pulse: 1500W (1.5kW); Type: Zener; Voltage - Breakdown (Min): 12.4V; Part Number: 1.5SMC13CA-E3/57T; Applications: General Purpose; ComponentLink1Description: Datasheet; ComponentLink1URL: http://www.vishay.com/docs/88303/15smc.pdf; ComponentLink2Description: DigiKey Link; ComponentLink2URL: http://digikey.com/product-detail/en/vishay-semiconductor-diodes-division/1.5SMC13CA-E3-57T/1.5SMC13CA-E3-57TGICT-ND/5638974; LastUpdated: 9/2/2020 1:28:08 AM; Lifecycle Status: Active; Minimum Order: 1; Mounting Type: Surface Mount; Operating Temperature: -65°C ~ 150°C (TJ); Package / Case: DO-214AB, SMC; Packaging: TapeAndReel; PartId: 8658; Part Status: Active; Price: 0.33; Series: 1.5SMC, TransZorb®; Supplier 1: DigiKey; Supplier Part Number 1: 1.5SMC13CA-E3/57TGICT-ND; Supplier Device Package: SMC (DO-214AB); Voltage - Clamping (Max) @ Ipp: 18.2V; Voltage - Reverse Standoff (Typ): 11.1V
footprint DO214AB SMC
pins: 1, 2

## 1.5SMC15A
designator D?
TVS DIODE 12.8V 21.2V DO214AB; Manufacturer: Bourns Inc.; Current - Peak Pulse (10/1000µs): 71.7A; Power Line Protection: No; Power - Peak Pulse: 1500W (1.5kW); Type: Zener; Unidirectional Channels: 1; Voltage - Breakdown (Min): 14.3V; Part Number: 1.5SMC15A; Applications: General Purpose; ComponentLink1Description: Datasheet; ComponentLink1URL: https://www.bourns.com/data/global/pdfs/1.5SMC.pdf; ComponentLink2Description: DigiKey Link; ComponentLink2URL: http://digikey.com/product-detail/en/bourns-inc/1.5SMC15A/1.5SMC15ABBCT-ND/6708168; LastUpdated: 9/2/2020 1:20:03 AM; Lifecycle Status: Active; Minimum Order: 1; Mounting Type: Surface Mount; Operating Temperature: -55°C ~ 150°C (TJ); Package / Case: DO-214AB, SMC; Packaging: TapeAndReel; PartId: 6698; Part Status: Active; Price: 0.20; Series: -; Supplier 1: DigiKey; Supplier Part Number 1: 1.5SMC15ABBCT-ND; Supplier Device Package: DO-214AB (SMC); Voltage - Clamping (Max) @ Ipp: 21.2V; Voltage - Reverse Standoff (Typ): 12.8V
footprint DO214AB SMC
pins: 1, 2

## 1.5SMC15A-E3/9AT
designator D?
TVS DIODE 12.8V 21.2V DO214AB; Manufacturer: Vishay Semiconductor Diodes Division; Current - Peak Pulse (10/1000µs): 70.8A; Power Line Protection: No; Power - Peak Pulse: 1500W (1.5kW); Type: Zener; Unidirectional Channels: 1; Voltage - Breakdown (Min): 14.3V; Part Number: 1.5SMC15A-E3/9AT; Applications: General Purpose; ComponentLink1Description: Datasheet; ComponentLink1URL: http://www.vishay.com/docs/88303/15smc.pdf; ComponentLink2Description: DigiKey Link; ComponentLink2URL: http://digikey.com/product-detail/en/vishay-semiconductor-diodes-division/1.5SMC15A-E3-9AT/1.5SMC15A-E3-9ATGICT-ND/3847538; LastUpdated: 9/2/2020 1:20:03 AM; Lifecycle Status: Active; Minimum Order: 1; Mounting Type: Surface Mount; Operating Temperature: -65°C ~ 150°C (TJ); Package / Case: DO-214AB, SMC; Packaging: TapeAndReel; PartId: 6690; Part Status: Active; Price: 0.21; Series: 1.5SMC, TransZorb®; Supplier 1: DigiKey; Supplier Part Number 1: 1.5SMC15A-E3/9ATGICT-ND; Supplier Device Package: SMC (DO-214AB); Voltage - Clamping (Max) @ Ipp: 21.2V; Voltage - Reverse Standoff (Typ): 12.8V
footprint DO214AB SMC
pins: 1, 2

## 1.5SMC15A-E3/57T
designator D?
TVS DIODE 12.8V 21.2V DO214AB; Manufacturer: Vishay Semiconductor Diodes Division; Current - Peak Pulse (10/1000µs): 70.8A; Power Line Protection: No; Power - Peak Pulse: 1500W (1.5kW); Type: Zener; Unidirectional Channels: 1; Voltage - Breakdown (Min): 14.3V; Part Number: 1.5SMC15A-E3/57T; Applications: General Purpose; ComponentLink1Description: Datasheet; ComponentLink1URL: http://www.vishay.com/docs/88303/15smc.pdf; ComponentLink2Description: DigiKey Link; ComponentLink2URL: http://digikey.com/product-detail/en/vishay-semiconductor-diodes-division/1.5SMC15A-E3-57T/1.5SMC15A-E3-57TGICT-ND/3847593; LastUpdated: 9/2/2020 1:20:03 AM; Lifecycle Status: Active; Minimum Order: 1; Mounting Type: Surface Mount; Operating Temperature: -65°C ~ 150°C (TJ); Package / Case: DO-214AB, SMC; Packaging: TapeAndReel; PartId: 6682; Part Status: Active; Price: 0.28; Series: 1.5SMC, TransZorb®; Supplier 1: DigiKey; Supplier Part Number 1: 1.5SMC15A-E3/57TGICT-ND; Supplier Device Package: SMC (DO-214AB); Voltage - Clamping (Max) @ Ipp: 21.2V; Voltage - Reverse Standoff (Typ): 12.8V
footprint DO214AB SMC
pins: 1, 2

## 1.5SMC15CA
designator D?
TVS DIODE 12.8V 21.2V DO214AB; Manufacturer: Littelfuse Inc.; Bidirectional Channels: 1; Current - Peak Pulse (10/1000µs): 71.7A; Power Line Protection: No; Power - Peak Pulse: 1500W (1.5kW); Type: Zener; Voltage - Breakdown (Min): 14.3V; Part Number: 1.5SMC15CA; Applications: General Purpose; ComponentLink1Description: Datasheet; ComponentLink1URL: https://www.littelfuse.com/~/media/electronics/datasheets/tvs_diodes/littelfuse_tvs_diode_1_5smc_datasheet.pdf.pdf; ComponentLink2Description: DigiKey Link; ComponentLink2URL: http://digikey.com/product-detail/en/littelfuse-inc/1.5SMC15CA/1.5SMC15CT-ND/9857570; LastUpdated: 9/2/2020 1:28:09 AM; Lifecycle Status: Active; Minimum Order: 1; Mounting Type: Surface Mount; Operating Temperature: -55°C ~ 150°C (TJ); Package / Case: DO-214AB, SMC; Packaging: TapeAndReel; PartId: 8722; Part Status: Active; Price: 0.27; Series: 1.5SMC; Supplier 1: DigiKey; Supplier Part Number 1: 1.5SMC15CT-ND; Supplier Device Package: DO-214AB (SMCJ); Voltage - Clamping (Max) @ Ipp: 21.2V; Voltage - Reverse Standoff (Typ): 12.8V
footprint DO214AB SMC
pins: 1, 2

## 1.5SMC15CA-E3/57T
designator D?
TVS DIODE 12.8V 21.2V DO214AB; Manufacturer: Vishay Semiconductor Diodes Division; Bidirectional Channels: 1; Current - Peak Pulse (10/1000µs): 70.8A; Power Line Protection: No; Power - Peak Pulse: 1500W (1.5kW); Type: Zener; Voltage - Breakdown (Min): 14.3V; Part Number: 1.5SMC15CA-E3/57T; Applications: General Purpose; ComponentLink1Description: Datasheet; ComponentLink1URL: http://www.vishay.com/docs/88303/15smc.pdf; ComponentLink2Description: DigiKey Link; ComponentLink2URL: http://digikey.com/product-detail/en/vishay-semiconductor-diodes-division/1.5SMC15CA-E3-57T/1.5SMC15CA-E3-57TGICT-ND/3711897; LastUpdated: 9/2/2020 1:28:09 AM; Lifecycle Status: Active; Minimum Order: 1; Mounting Type: Surface Mount; Operating Temperature: -65°C ~ 150°C (TJ); Package / Case: DO-214AB, SMC; Packaging: TapeAndReel; PartId: 8741; Part Status: Active; Price: 0.33; Series: 1.5SMC, TransZorb®; Supplier 1: DigiKey; Supplier Part Number 1: 1.5SMC15CA-E3/57TGICT-ND; Supplier Device Package: SMC (DO-214AB); Voltage - Clamping (Max) @ Ipp: 21.2V; Voltage - Reverse Standoff (Typ): 12.8V
footprint DO214AB SMC
pins: 1, 2

## 1.5SMC16A
designator D?
TVS DIODE 13.6V 22.5V DO214AB; Manufacturer: Littelfuse Inc.; Current - Peak Pulse (10/1000µs): 67.6A; Power Line Protection: No; Power - Peak Pulse: 1500W (1.5kW); Type: Zener; Unidirectional Channels: 1; Voltage - Breakdown (Min): 15.2V; Part Number: 1.5SMC16A; Applications: General Purpose; ComponentLink1Description: Datasheet; ComponentLink1URL: https://www.littelfuse.com/~/media/electronics/datasheets/tvs_diodes/littelfuse_tvs_diode_1_5smc_datasheet.pdf.pdf; ComponentLink2Description: DigiKey Link; ComponentLink2URL: http://digikey.com/product-detail/en/littelfuse-inc/1.5SMC16A/1.5SMC16ACT-ND/6965016; LastUpdated: 9/2/2020 1:20:01 AM; Lifecycle Status: Active; Minimum Order: 1; Mounting Type: Surface Mount; Operating Temperature: -55°C ~ 150°C (TJ); Package / Case: DO-214AB, SMC; Packaging: TapeAndReel; PartId: 6509; Part Status: Active; Price: 0.25; Series: 1.5SMC; Supplier 1: DigiKey; Supplier Part Number 1: 1.5SMC16ACT-ND; Supplier Device Package: DO-214AB (SMCJ); Voltage - Clamping (Max) @ Ipp: 22.5V; Voltage - Reverse Standoff (Typ): 13.6V
footprint DO214AB SMC
pins: 1, 2

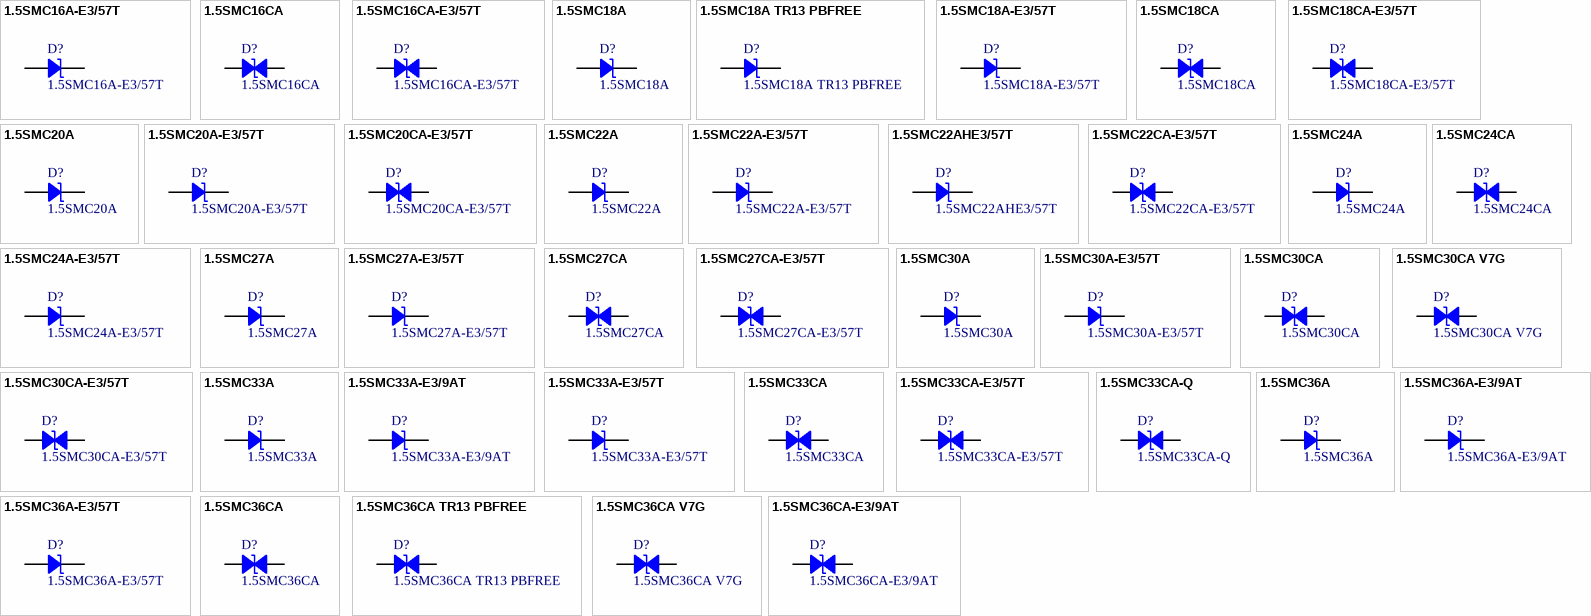
[diagram p1: symbols 1.5SMC16A-E3/57T to 1.5SMC36CA-E3/9AT]

## 1.5SMC16A-E3/57T
designator D?
TVS DIODE 13.6V 22.5V DO214AB; Manufacturer: Vishay Semiconductor Diodes Division; Current - Peak Pulse (10/1000µs): 66.7A; Power Line Protection: No; Power - Peak Pulse: 1500W (1.5kW); Type: Zener; Unidirectional Channels: 1; Voltage - Breakdown (Min): 15.2V; Part Number: 1.5SMC16A-E3/57T; Applications: General Purpose; ComponentLink1Description: Datasheet; ComponentLink1URL: http://www.vishay.com/docs/88303/15smc.pdf; ComponentLink2Description: DigiKey Link; ComponentLink2URL: http://digikey.com/product-detail/en/vishay-semiconductor-diodes-division/1.5SMC16A-E3-57T/1.5SMC16A-E3-57TGICT-ND/5638978; LastUpdated: 9/2/2020 1:20:03 AM; Lifecycle Status: Active; Minimum Order: 1; Mounting Type: Surface Mount; Operating Temperature: -65°C ~ 150°C (TJ); Package / Case: DO-214AB, SMC; Packaging: TapeAndReel; PartId: 6684; Part Status: Active; Price: 0.28; Series: 1.5SMC, TransZorb®; Supplier 1: DigiKey; Supplier Part Number 1: 1.5SMC16A-E3/57TGICT-ND; Supplier Device Package: SMC (DO-214AB); Voltage - Clamping (Max) @ Ipp: 22.5V; Voltage - Reverse Standoff (Typ): 13.6V
footprint DO214AB SMC
pins: 1, 2

## 1.5SMC16CA
designator D?
TVS DIODE 13.6V 22.5V DO214AB; Manufacturer: Littelfuse Inc.; Bidirectional Channels: 1; Current - Peak Pulse (10/1000µs): 67.6A; Power Line Protection: No; Power - Peak Pulse: 1500W (1.5kW); Type: Zener; Voltage - Breakdown (Min): 15.2V; Part Number: 1.5SMC16CA; Applications: General Purpose; ComponentLink1Description: Datasheet; ComponentLink1URL: https://www.littelfuse.com/~/media/electronics/datasheets/tvs_diodes/littelfuse_tvs_diode_1_5smc_datasheet.pdf.pdf; ComponentLink2Description: DigiKey Link; ComponentLink2URL: http://digikey.com/product-detail/en/littelfuse-inc/1.5SMC16CA/18-1.5SMC16CACT-ND/10492200; LastUpdated: 9/2/2020 1:28:03 AM; Lifecycle Status: Active; Minimum Order: 1; Mounting Type: Surface Mount; Operating Temperature: -55°C ~ 150°C (TJ); Package / Case: DO-214AB, SMC; Packaging: TapeAndReel; PartId: 8076; Part Status: Active; Price: 0.26; Series: 1.5SMC; Supplier 1: DigiKey; Supplier Part Number 1: 18-1.5SMC16CACT-ND; Supplier Device Package: DO-214AB (SMCJ); Voltage - Clamping (Max) @ Ipp: 22.5V; Voltage - Reverse Standoff (Typ): 13.6V
footprint DO214AB SMC
pins: 1, 2

## 1.5SMC16CA-E3/57T
designator D?
TVS DIODE 13.6V 22.5V DO214AB; Manufacturer: Vishay Semiconductor Diodes Division; Bidirectional Channels: 1; Current - Peak Pulse (10/1000µs): 66.7A; Power Line Protection: No; Power - Peak Pulse: 1500W (1.5kW); Type: Zener; Voltage - Breakdown (Min): 15.2V; Part Number: 1.5SMC16CA-E3/57T; Applications: General Purpose; ComponentLink1Description: Datasheet; ComponentLink1URL: http://www.vishay.com/docs/88303/15smc.pdf; ComponentLink2Description: DigiKey Link; ComponentLink2URL: http://digikey.com/product-detail/en/vishay-semiconductor-diodes-division/1.5SMC16CA-E3-57T/1.5SMC16CA-E3-57TGICT-ND/3847594; LastUpdated: 9/2/2020 1:28:02 AM; Lifecycle Status: Active; Minimum Order: 1; Mounting Type: Surface Mount; Operating Temperature: -65°C ~ 150°C (TJ); Package / Case: DO-214AB, SMC; Packaging: TapeAndReel; PartId: 8040; Part Status: Active; Price: 0.33; Series: 1.5SMC, TransZorb®; Supplier 1: DigiKey; Supplier Part Number 1: 1.5SMC16CA-E3/57TGICT-ND; Supplier Device Package: SMC (DO-214AB); Voltage - Clamping (Max) @ Ipp: 22.5V; Voltage - Reverse Standoff (Typ): 13.6V
footprint DO214AB SMC
pins: 1, 2